# Altium schematic symbol library SCH - ARM CORTEX - ST STM32F070X6 20PIN.SCHLIB: 1 symbol
Pins are listed as number, name and electrical type; pins without a type are passive.

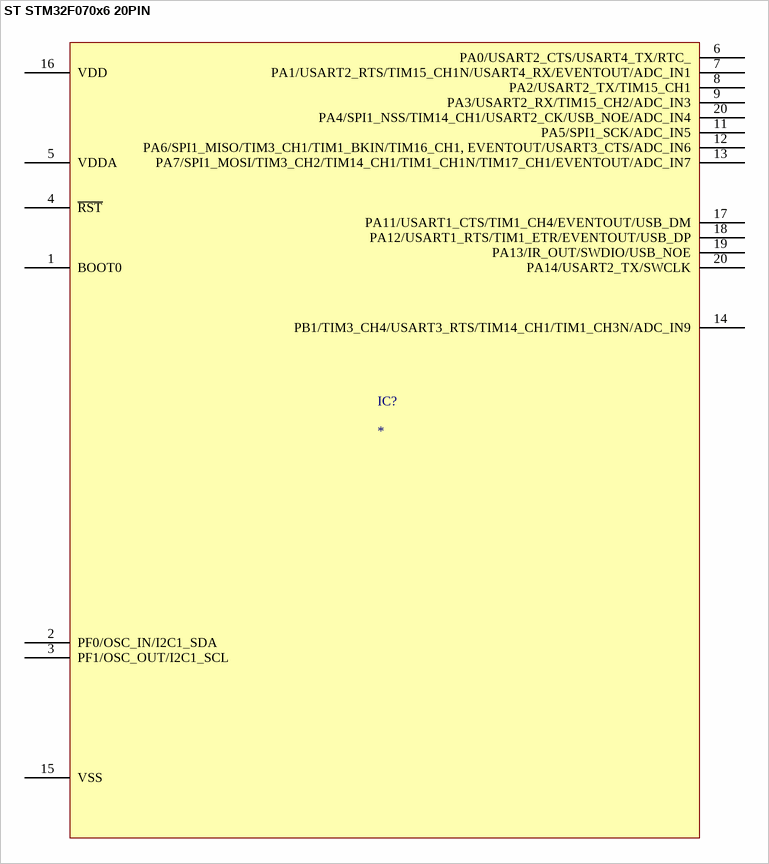
[diagram p0: symbol ST STM32F070x6 20PIN]

## ST STM32F070x6 20PIN
designator IC?
pins: 1 BOOT0, 2 PF0/OSC_IN/I2C1_SDA, 3 PF1/OSC_OUT/I2C1_SCL, 4 ~{RST}, 5 VDDA, 6 PA0/USART2_CTS/USART4_TX/RTC_, 7 PA1/USART2_RTS/TIM15_CH1N/USART4_RX/EVENTOUT/ADC_IN1, 8 PA2/USART2_TX/TIM15_CH1, 9 PA3/USART2_RX/TIM15_CH2/ADC_IN3, 11 PA5/SPI1_SCK/ADC_IN5, 12 PA6/SPI1_MISO/TIM3_CH1/TIM1_BKIN/TIM16_CH1, EVENTOUT/USART3_CTS/ADC_IN6, 13 PA7/SPI1_MOSI/TIM3_CH2/TIM14_CH1/TIM1_CH1N/TIM17_CH1/EVENTOUT/ADC_IN7, 14 PB1/TIM3_CH4/USART3_RTS/TIM14_CH1/TIM1_CH3N/ADC_IN9, 15 VSS, 16 VDD, 17 PA11/USART1_CTS/TIM1_CH4/EVENTOUT/USB_DM, 18 PA12/USART1_RTS/TIM1_ETR/EVENTOUT/USB_DP, 19 PA13/IR_OUT/SWDIO/USB_NOE, 20 PA4/SPI1_NSS/TIM14_CH1/USART2_CK/USB_NOE/ADC_IN4, 20 PA14/USART2_TX/SWCLK